# EAGLE library part 2305018-2 (library 2305018-2)
TYPE C Right Angle Sealable SMT IPX8 3.1 GEN 2 Wire to Board USB Buy Part <https://snapeda.com/parts/2305018-2/TE%20Connectivity/view-part/?ref=eda>
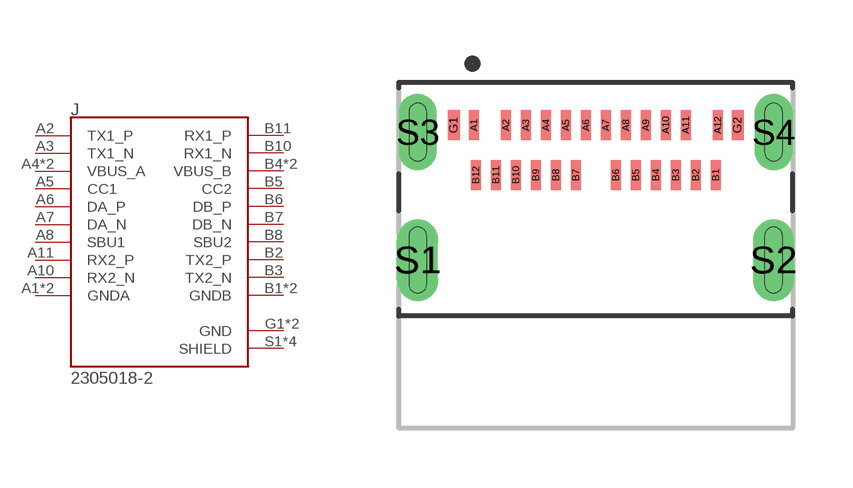
[diagram p0: symbol with the pads of TE_2305018-2; footprint TE_2305018-2]

Designator prefix J

## 2305018-2 (Availability: Good; Comment: 2305018-2; Description: USB TYPE C, REC IPX8 ON BOARD DUAL SMT; DigiKey-Purchase-URL: https://snapeda.com/shop?store=DigiKey&id=2772329; MF: TE Connectivity; MP: 2305018-2; Mouser-Purchase-URL: https://snapeda.com/shop?store=Mouser&id=2772329; Package: None; Price: None)  [TE_2305018-2]
A1  GNDA  pas
A2  TX1_P  pas
A3  TX1_N  pas
A4  VBUS_A  pas
A5  CC1  pas
A6  DA_P  pas
A7  DA_N  pas
A8  SBU1  pas
A9  VBUS_A  pas
A10  RX2_N  pas
A11  RX2_P  pas
A12  GNDA  pas
B1  GNDB  pas
B2  TX2_P  pas
B3  TX2_N  pas
B4  VBUS_B  pas
B5  CC2  pas
B6  DB_P  pas
B7  DB_N  pas
B8  SBU2  pas
B9  VBUS_B  pas
B10  RX1_N  pas
B11  RX1_P  pas
B12  GNDB  pas
G1  GND  pwr
G2  GND  pwr
S1  SHIELD  pwr
S2  SHIELD  pwr
S3  SHIELD  pwr
S4  SHIELD  pwr

## Footprint TE_2305018-2 (pad centres in mm)
smd 0.25 x 0.75: A1 -3.05,3.375; A2 -2.25,3.375; A3 -1.75,3.375; A4 -1.25,3.375; A5 -0.75,3.375; A6 -0.25,3.375; A7 0.25,3.375; A8 0.75,3.375; A9 1.25,3.375; A10 1.75,3.375; A11 2.25,3.375; A12 3.05,3.375; B1 3,2.125; B2 2.5,2.125; B3 2,2.125; B4 1.5,2.125; B5 1,2.125; B6 0.5,2.125; B7 -0.5,2.125; B8 -1,2.125; B9 -1.5,2.125; B10 -2,2.125; B11 -2.5,2.125; B12 -3,2.125
smd 0.3 x 0.75: G1 -3.55,3.375; G2 3.55,3.375
drill 0.45 pad 1.025 long: S1 -4.45,0; S2 4.45,0
drill 0.45 pad 0.925 long: S3 -4.45,3.2; S4 4.45,3.2